# Altium footprint library Molex Footprints.PcbLib: 498 footprints (part 31 of 32)
Each footprint in its own frame and in the unit in brackets; x right, y up, seen from the top. Pads: shape width x height; smd on the part's side, far side on the other; paste and mask are expansions set on the pad; w line width, h text height; cw(c..) or ccw(c..) is an arc to the next point about the centre after c.
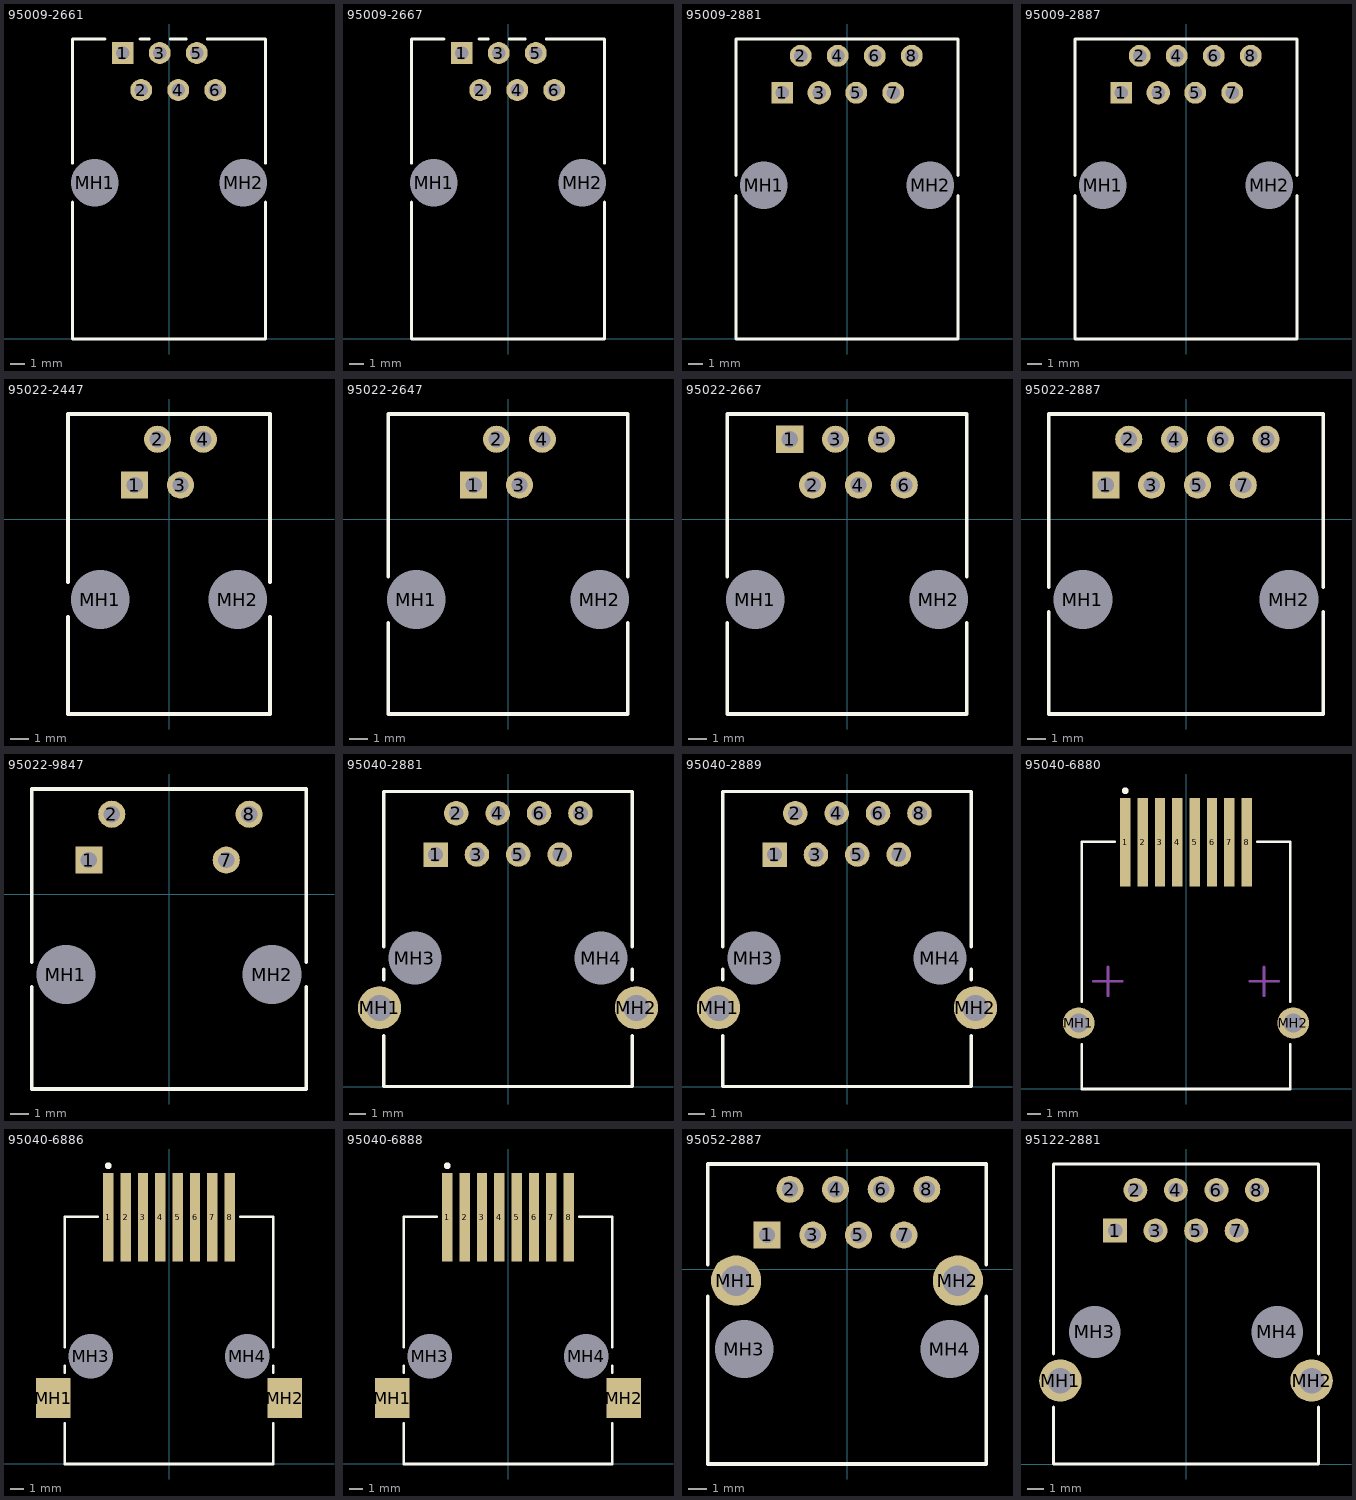
[diagram p30: the footprints below, top view; thin cyan lines are the x and y axes]

## 95009-2661 [mm] "Connector; PCB Jack, Thru-Hole; 1-Port, 6 Positions, 6 Loaded; Unshielded without Lightpipes; Right Angle"
height 16
pads (8):
  rect 1.5x1.5 hole 0.9: 1(-3.175,19.61)
  round 1.5 hole 0.9: 2(-1.905,17.07) 3(-0.635,19.61) 4(0.635,17.07) 5(1.905,19.61) 6(3.175,17.07)
  round 2.95 hole 3.25 unplated: MH1(-5.08,10.72) MH2(5.08,10.72)
Top Overlay:
  lines w0.2: -6.605,9.388 -6.605,0 6.605,0 6.605,9.388 ; -6.605,12.052 -6.605,20.57 -4.375,20.57 ; -1.975,20.57 -1.355,20.57 ; 0.085,20.57 1.185,20.57 ; 2.625,20.57 6.605,20.57 6.605,12.052

## 95009-2667 [mm] "Connector; PCB Jack, Thru-Hole; 1-Port, 6 Positions, 6 Loaded; Unshielded without Lightpipes; Right Angle"
height 16
pads (8):
  rect 1.5x1.5 hole 0.9: 1(-3.175,19.61)
  round 1.5 hole 0.9: 2(-1.905,17.07) 3(-0.635,19.61) 4(0.635,17.07) 5(1.905,19.61) 6(3.175,17.07)
  round 2.95 hole 3.25 unplated: MH1(-5.08,10.72) MH2(5.08,10.72)
Top Overlay:
  lines w0.2: -6.605,9.388 -6.605,0 6.605,0 6.605,9.388 ; -6.605,12.052 -6.605,20.57 -4.375,20.57 ; -1.975,20.57 -1.355,20.57 ; 0.085,20.57 1.185,20.57 ; 2.625,20.57 6.605,20.57 6.605,12.052

## 95009-2881 [mm] "Connector; PCB Jack, Thru-Hole; 1-Port, 8 Positions, 8 Loaded; Unshielded without Lightpipes; Right Angle"
height 16
pads (10):
  rect 1.5x1.5 hole 0.9: 1(-4.445,16.89)
  round 1.5 hole 0.9: 2(-3.175,19.43) 4(-0.635,19.43) 5(0.635,16.89) 6(1.905,19.43) 7(3.175,16.89) 8(4.445,19.43)
  round 1.6 hole 0.9: 3(-1.905,16.89)
  round 2.95 hole 3.25 unplated: MH1(-5.715,10.54) MH2(5.715,10.54)
Top Overlay:
  lines w0.2: -7.62,9.853 -7.62,0 7.62,0 7.62,9.853 ; -7.62,11.227 -7.62,20.58 7.62,20.58 7.62,11.227

## 95009-2887 [mm] "Connector; PCB Jack, Thru-Hole; 1-Port, 8 Positions, 8 Loaded; Unshielded without Lightpipes; Right Angle"
height 16
pads (10):
  rect 1.5x1.5 hole 0.9: 1(-4.445,16.89)
  round 1.5 hole 0.9: 2(-3.175,19.43) 4(-0.635,19.43) 5(0.635,16.89) 6(1.905,19.43) 7(3.175,16.89) 8(4.445,19.43)
  round 1.6 hole 0.9: 3(-1.905,16.89)
  round 2.95 hole 3.25 unplated: MH1(-5.715,10.54) MH2(5.715,10.54)
Top Overlay:
  lines w0.2: -7.62,9.853 -7.62,0 7.62,0 7.62,9.853 ; -7.62,11.227 -7.62,20.58 7.62,20.58 7.62,11.227

## 95022-2447 [mm] "Connector; PCB Jack, Thru-Hole; 1-Port, 4 Positions, 4 Loaded; Unshielded without Lightpipes; Vertical"
height 16.25
pads (6):
  rect 1.5x1.5 hole 0.9: 1(-1.905,1.905)
  round 1.5 hole 0.9: 2(-0.635,4.445) 3(0.635,1.905) 4(1.905,4.445)
  round 2.95 hole 3.25 unplated: MH1(-3.81,-4.445) MH2(3.81,-4.445)
Top Overlay:
  lines w0.2: -5.6,-5.392 -5.6,-10.795 5.6,-10.795 5.6,-5.392 ; -5.6,-3.498 -5.6,5.845 5.6,5.845 5.6,-3.498

## 95022-2647 [mm] "Connector; PCB Jack, Thru-Hole; 1-Port, 6 Positions, 4 Loaded; Unshielded without Lightpipes; Vertical"
height 16.25
pads (6):
  rect 1.5x1.5 hole 0.9: 1(-1.905,1.905)
  round 1.5 hole 0.9: 2(-0.635,4.445) 3(0.635,1.905) 4(1.905,4.445)
  round 2.95 hole 3.25 unplated: MH1(-5.08,-4.445) MH2(5.08,-4.445)
Top Overlay:
  lines w0.2: -6.65,-5.724 -6.65,-10.795 6.65,-10.795 6.65,-5.724 ; -6.65,-3.166 -6.65,5.845 6.65,5.845 6.65,-3.166

## 95022-2667 [mm] "Connector; PCB Jack, Thru-Hole; 1-Port, 6 Positions, 6 Loaded; Unshielded without Lightpipes; Vertical"
height 16.25
pads (8):
  rect 1.5x1.5 hole 0.9: 1(-3.175,4.445)
  round 1.5 hole 0.9: 2(-1.905,1.905) 3(-0.635,4.445) 4(0.635,1.905) 5(1.905,4.445) 6(3.175,1.905)
  round 2.95 hole 3.25 unplated: MH1(-5.08,-4.445) MH2(5.08,-4.445)
Top Overlay:
  lines w0.2: -6.65,-5.724 -6.65,-10.795 6.65,-10.795 6.65,-5.724 ; -6.65,-3.166 -6.65,5.845 6.65,5.845 6.65,-3.166

## 95022-2887 [mm] "Connector; PCB Jack, Thru-Hole; 1-Port, 8 Positions, 8 Loaded; Unshielded without Lightpipes; Vertical"
height 16.25
pads (10):
  rect 1.5x1.5 hole 0.9: 1(-4.445,1.905)
  round 1.5 hole 0.9: 2(-3.175,4.445) 3(-1.905,1.905) 4(-0.635,4.445) 5(0.635,1.905) 6(1.905,4.445) 7(3.175,1.905) 8(4.445,4.445)
  round 2.95 hole 3.25 unplated: MH1(-5.715,-4.445) MH2(5.715,-4.445)
Top Overlay:
  lines w0.2: -7.62,-5.132 -7.62,-10.795 7.62,-10.795 7.62,-5.132 ; -7.62,-3.758 -7.62,5.845 7.62,5.845 7.62,-3.758

## 95022-9847 [mm] "Connector; PCB Jack, Thru-Hole; 1-Port, 8 Positions, 4 Loaded; Unshielded without Lightpipes; Vertical"
height 16.25
pads (6):
  rect 1.5x1.5 hole 0.9: 1(-4.445,1.905)
  round 1.5 hole 0.9: 2(-3.175,4.445) 7(3.175,1.905) 8(4.445,4.445)
  round 2.95 hole 3.25 unplated: MH1(-5.715,-4.445) MH2(5.715,-4.445)
Top Overlay:
  lines w0.2: -7.62,-5.132 -7.62,-10.795 7.62,-10.795 7.62,-5.132 ; -7.62,-3.758 -7.62,5.845 7.62,5.845 7.62,-3.758

## 95040-2881 [mm] "Connector; PCB Jack, Thru-Hole; 1-Port, 8 Positions, 8 Loaded; Shielded without Lightpipes; Right Angle"
height 11.75
pads (12):
  rect 1.5x1.5 hole 0.9: 1(-4.445,14.23)
  round 1.5 hole 0.9: 2(-3.175,16.77) 3(-1.905,14.23) 4(-0.635,16.77) 5(0.635,14.23) 6(1.905,16.77) 7(3.175,14.23) 8(4.445,16.77)
  round 2.65 hole 1.6: MH1(-7.875,4.83) MH2(7.875,4.83)
  round 2.95 hole 3.25 unplated: MH3(-5.715,7.88) MH4(5.715,7.88)
Top Overlay:
  lines w0.2: -7.62,3.124 -7.62,0 7.62,0 7.62,3.124 ; -7.62,6.536 -7.62,7.193 ; -7.62,8.567 -7.62,18.1 7.62,18.1 7.62,8.567 ; 7.62,6.536 7.62,7.193

## 95040-2889 [mm] "Connector; PCB Jack, Thru-Hole; 1-Port, 8 Positions, 8 Loaded; Shielded without Lightpipes; Right Angle"
height 11.75
pads (12):
  rect 1.5x1.5 hole 0.9: 1(-4.445,14.23)
  round 1.5 hole 0.9: 2(-3.175,16.77) 3(-1.905,14.23) 4(-0.635,16.77) 5(0.635,14.23) 6(1.905,16.77) 7(3.175,14.23) 8(4.445,16.77)
  round 2.65 hole 1.6: MH1(-7.875,4.83) MH2(7.875,4.83)
  round 2.95 hole 3.25 unplated: MH3(-5.715,7.88) MH4(5.715,7.88)
Top Overlay:
  lines w0.2: -7.62,3.124 -7.62,0 7.62,0 7.62,3.124 ; -7.62,6.536 -7.62,7.193 ; -7.62,8.567 -7.62,18.1 7.62,18.1 7.62,8.567 ; 7.62,6.536 7.62,7.193

## 95040-6880 [mm] "Connector; PCB Jack, SM; 1-Port, 8 Positions, 8 Loaded; Shielded without Lightpipes; Right Angle"
height 11.75
pads (10):
  rect 0.76x6.45 smd: 1(-4.445,18.055) 2(-3.175,18.055) 3(-1.905,18.055) 4(-0.635,18.055) 5(0.635,18.055) 6(1.905,18.055) 7(3.175,18.055) 8(4.445,18.055)
  round 2.3 hole 1.4: MH1(-7.85,4.83) MH2(7.85,4.83)
Top Overlay:
  circle w0.25: c-4.445,21.83 r0.125
  lines w0.2: -7.62,3.28 -7.62,0 7.62,0 7.62,3.28 ; -7.62,6.38 -7.62,18.1 -5.225,18.1 ; 5.225,18.1 7.62,18.1 7.62,6.38
Mechanical 1:
  lines w0.2: -6.765,7.88 -5.715,7.88 ; -5.715,6.83 -5.715,7.88 ; -5.715,8.93 -5.715,7.88 ; -4.665,7.88 -5.715,7.88 ; 4.665,7.88 5.715,7.88 ; 5.715,6.83 5.715,7.88 ; 5.715,8.93 5.715,7.88 ; 6.765,7.88 5.715,7.88

## 95040-6886 [mm] "Connector; PCB Jack, SM; 1-Port, 8 Positions, 8 Loaded; Shielded without Lightpipes; Right Angle"
height 11.75
pads (12):
  rect 0.76x6.45 smd: 1(-4.445,18.055) 2(-3.175,18.055) 3(-1.905,18.055) 4(-0.635,18.055) 5(0.635,18.055) 6(1.905,18.055) 7(3.175,18.055) 8(4.445,18.055)
  rect 2.54x2.94 smd: MH1(-8.465,4.83) MH2(8.465,4.83)
  round 2.95 hole 3.25 unplated: MH3(-5.715,7.88) MH4(5.715,7.88)
Top Overlay:
  circle w0.25: c-4.445,21.83 r0.125
  lines w0.2: -7.62,2.96 -7.62,0 7.62,0 7.62,2.96 ; -7.62,6.7 -7.62,7.193 ; -7.62,8.567 -7.62,18.1 -5.225,18.1 ; 5.225,18.1 7.62,18.1 7.62,8.567 ; 7.62,6.7 7.62,7.193

## 95040-6888 [mm] "Connector; PCB Jack, SM; 1-Port, 8 Positions, 8 Loaded; Shielded without Lightpipes; Right Angle"
height 11.75
pads (12):
  rect 0.76x6.45 smd: 1(-4.445,18.055) 2(-3.175,18.055) 3(-1.905,18.055) 4(-0.635,18.055) 5(0.635,18.055) 6(1.905,18.055) 7(3.175,18.055) 8(4.445,18.055)
  rect 2.54x2.94 smd: MH1(-8.465,4.83) MH2(8.465,4.83)
  round 2.95 hole 3.25 unplated: MH3(-5.715,7.88) MH4(5.715,7.88)
Top Overlay:
  circle w0.25: c-4.445,21.83 r0.125
  lines w0.2: -7.62,2.96 -7.62,0 7.62,0 7.62,2.96 ; -7.62,6.7 -7.62,7.193 ; -7.62,8.567 -7.62,18.1 -5.225,18.1 ; 5.225,18.1 7.62,18.1 7.62,8.567 ; 7.62,6.7 7.62,7.193

## 95052-2887 [mm] "Connector; PCB Jack, Thru-Hole; 1-Port, 8 Positions, 8 Loaded; Shielded without Lightpipes; Vertical"
height 16.25
pads (12):
  rect 1.5x1.5 hole 0.9: 1(-4.445,1.905)
  round 1.5 hole 0.9: 2(-3.175,4.445) 3(-1.905,1.905) 4(-0.635,4.445) 5(0.635,1.905) 6(1.905,4.445) 7(3.175,1.905) 8(4.445,4.445)
  round 2.8 hole 1.7: MH1(-6.175,-0.635) MH2(6.175,-0.635)
  round 2.95 hole 3.25 unplated: MH3(-5.715,-4.445) MH4(5.715,-4.445)
Top Overlay:
  lines w0.2: -7.75,-1.506 -7.75,-10.845 7.75,-10.845 7.75,-1.506 ; -7.75,0.236 -7.75,5.855 7.75,5.855 7.75,0.236

## 95122-2881 [mm] "Connector; PCB Jack, Thru-Hole; 1-Port, 8 Positions, 8 Loaded; Shielded without Lightpipes; Right Angle"
height 13
pads (12):
  rect 1.5x1.5 hole 0.9: 1(-4.445,14.63)
  round 1.5 hole 0.9: 2(-3.175,17.17) 3(-1.905,14.63) 4(-0.635,17.17) 5(0.635,14.63) 6(1.905,17.17) 7(3.175,14.63) 8(4.445,17.17)
  round 2.65 hole 1.6: MH1(-7.875,5.23) MH2(7.875,5.23)
  round 2.95 hole 3.25 unplated: MH3(-5.715,8.28) MH4(5.715,8.28)
Top Overlay:
  lines w0.2: -8.3,3.558 -8.3,0 8.3,0 8.3,3.558 ; -8.3,6.902 -8.3,18.8 8.3,18.8 8.3,6.902